# Altium footprint library MMC5983MA.PcbLib: 1 footprints
Each footprint in its own frame and in the unit in brackets; x right, y up, seen from the top. Pads: shape width x height; smd on the part's side, far side on the other; paste and mask are expansions set on the pad; w line width, h text height; cw(c..) or ccw(c..) is an arc to the next point about the centre after c.
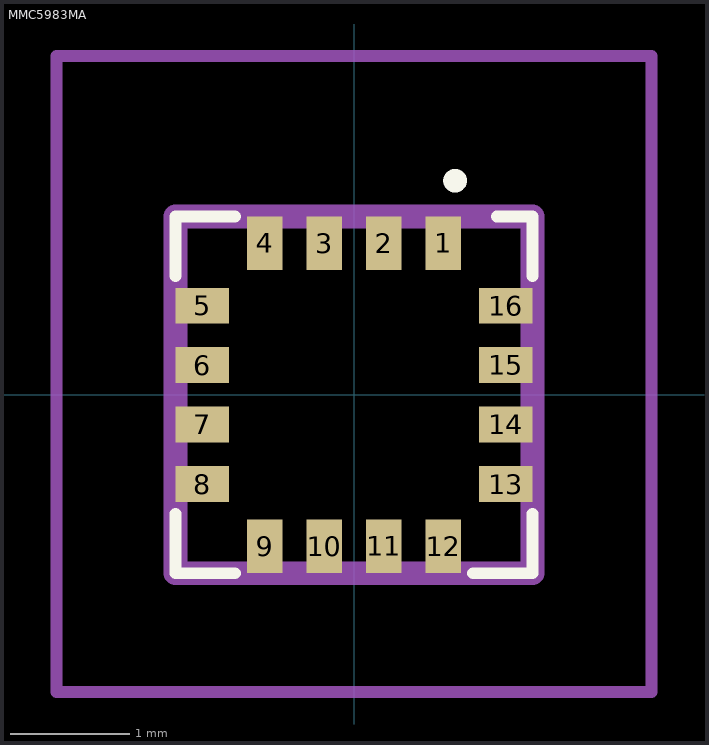
[diagram p0: the footprint, top view; thin cyan lines are the x and y axes]

## MMC5983MA [mm]
pads (16):
  rect 0.3x0.45 smd: 1(0.75,1.275) 2(0.25,1.275) 3(-0.25,1.275) 4(-0.75,1.275) 9(-0.75,-1.275) 10(-0.25,-1.275) 11(0.25,-1.275) 12(0.75,-1.275)
  rect 0.45x0.3 smd: 5(-1.275,0.75) 6(-1.275,0.25) 7(-1.275,-0.25) 8(-1.275,-0.75) 13(1.275,-0.75) 14(1.275,-0.25) 15(1.275,0.25) 16(1.275,0.75)
Top Overlay:
  lines w0.1: -1.5,-1 -1.5,-1.5 -1,-1.5 ; -1.5,1 -1.5,1.5 -1,1.5 ; 1,-1.5 1.5,-1.5 1.5,-1 ; 1.2,1.5 1.5,1.5 1.5,1 ; 0.8,1.8 0.8,1.8 ; 0.8,1.8 ccw(c0.85,1.8) 0.9,1.8 ; 0.8,1.8 cw(c0.85,1.8) 0.9,1.8 ; 0.9,1.8 0.9,1.8
Mechanical 15:
  lines w0.2: -1.5,-1.5 1.5,-1.5 1.5,1.5 -1.5,1.5 -1.5,-1.5
Mechanical 20:
  lines w0.1: -2.5,-2.5 2.5,-2.5 2.5,2.85 -2.5,2.85 -2.5,-2.5